# EAGLE library part GDT (library onecoil)
Half-Bridge GDT
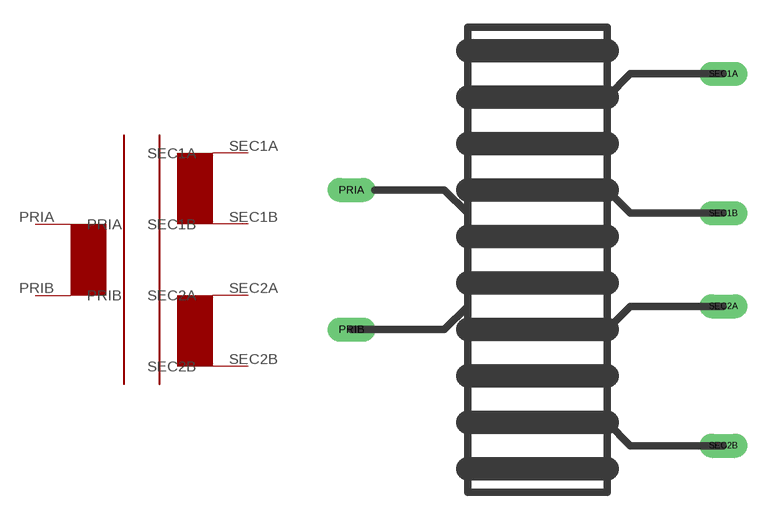
[diagram p0: symbol with the pads of GDT; footprint GDT]

Designator prefix -

## GDT  [GDT]
PRIA  PRIA  in
PRIB  PRIB  in
SEC1A  SEC1A  out
SEC1B  SEC1B  out
SEC2A  SEC2A  out
SEC2B  SEC2B  out

## Footprint GDT (pad centres in mm)
drill 0.8 long: PRIA -10.16,3.81; PRIB -10.16,-3.81; SEC1A 10.16,10.16; SEC1B 10.16,2.54; SEC2A 10.16,-2.54; SEC2B 10.16,-10.16